# EAGLE library part P8284 (library s100)
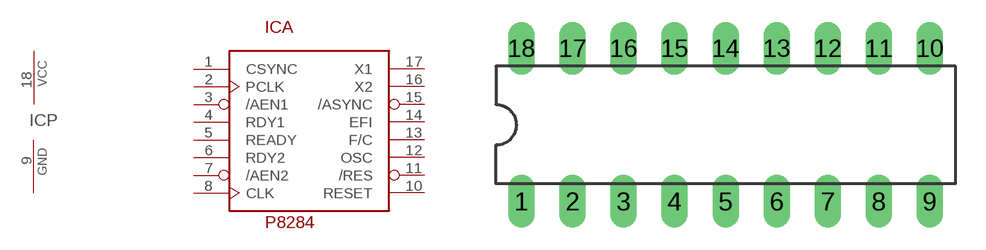
[diagram p5: symbol with the pads of DIL18; footprint DIL18]

Designator prefix IC; gates A=P8284 P=PWRN

## P8284  [DIL18]
1  A:CSYNC
2  A:PCLK
3  A:/AEN1
4  A:RDY1
5  A:READY
6  A:RDY2
7  A:/AEN2
8  A:CLK
9  P:GND  pwr
10  A:RESET
11  A:/RES
12  A:OSC
13  A:F/C
14  A:EFI
15  A:/ASYNC
16  A:X2
17  A:X1
18  P:VCC  pwr

## Footprint DIL18 (pad centres in mm)
Dual In Line Package
drill 0.813 long: 1 -10.16,-3.81; 2 -7.62,-3.81; 3 -5.08,-3.81; 4 -2.54,-3.81; 5 0,-3.81; 6 2.54,-3.81; 7 5.08,-3.81; 8 7.62,-3.81; 9 10.16,-3.81; 10 10.16,3.81; 11 7.62,3.81; 12 5.08,3.81; 13 2.54,3.81; 14 0,3.81; 15 -2.54,3.81; 16 -5.08,3.81; 17 -7.62,3.81; 18 -10.16,3.81